# Altium footprint library CONN.PcbLib: 1 footprints
Each footprint in its own frame and in the unit in brackets; x right, y up, seen from the top. Pads: shape width x height; smd on the part's side, far side on the other; paste and mask are expansions set on the pad; w line width, h text height; cw(c..) or ccw(c..) is an arc to the next point about the centre after c.
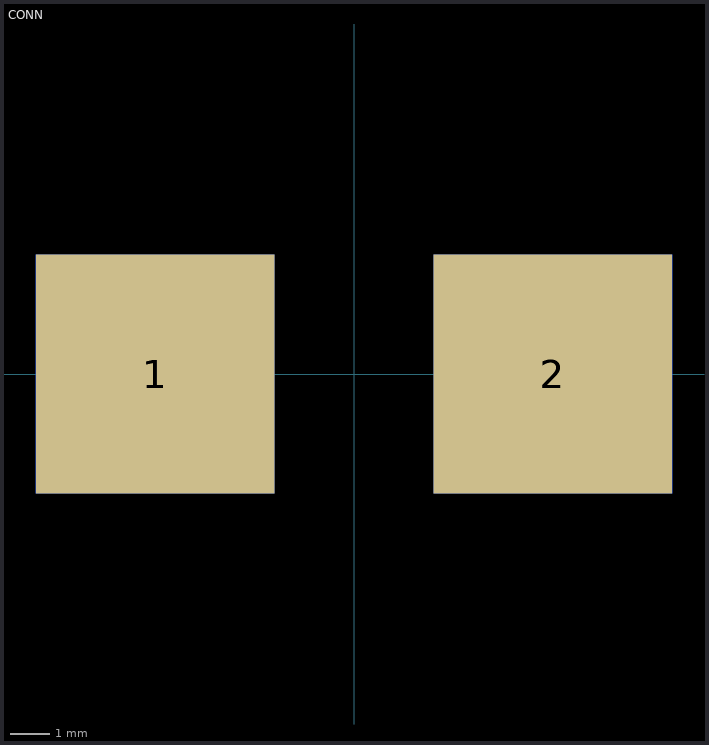
[diagram p0: the footprint, top view; thin cyan lines are the x and y axes]

## CONN [mm]
height 1.9
pads (4):
  rect 6x6 smd: 1(-5,0) 2(5,0)
  rect 6x6 smd far side: 1(-5,0) 2(5,0)
Top Assembly:
  text "'.Designator'" at -0.925,-0.325 h0.7